# Altium footprint library 1000uF_10V_Size_F.PcbLib: 1 footprints
Each footprint in its own frame and in the unit in brackets; x right, y up, seen from the top. Pads: shape width x height; smd on the part's side, far side on the other; paste and mask are expansions set on the pad; w line width, h text height; cw(c..) or ccw(c..) is an arc to the next point about the centre after c.
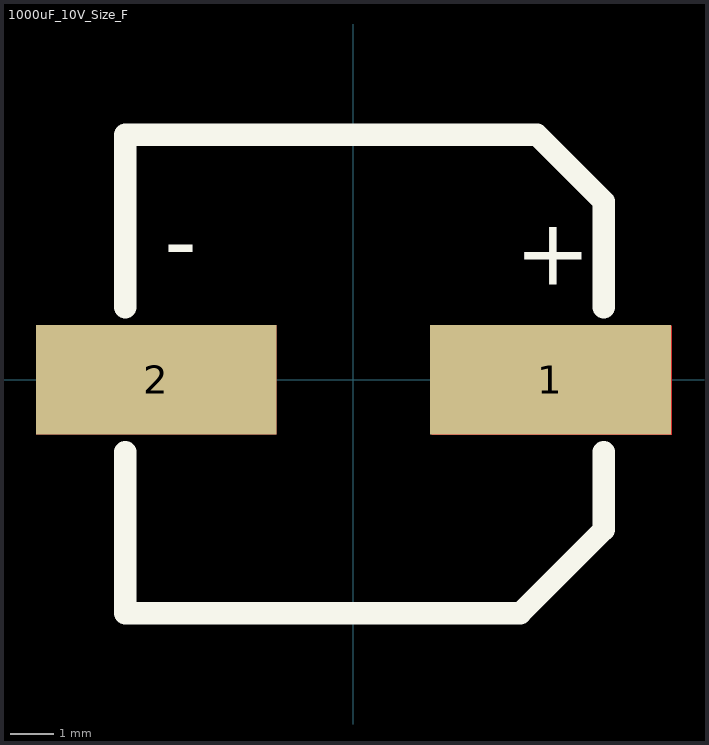
[diagram p0: the footprint, top view; thin cyan lines are the x and y axes]

## 1000uF_10V_Size_F [mm]
pads (2):
  rect 5.5x2.5 smd: 1(4.5,0) 2(-4.5,0)
Top Layer:
  rectangle: 1.778,-1.27 7.278,1.23
  rectangle: -7.25,-1.25 -1.75,1.25
Top Overlay:
  lines w0.508: -5.207,-1.651 -5.207,-5.334 3.81,-5.334 5.715,-3.429 5.715,-1.651 ; -5.207,1.651 -5.207,5.588 4.191,5.588 5.715,4.064 5.715,1.651
  text "+" at 3.683,2.159 h1.52
  text "-" at -4.318,2.413 h1.52
3D body "EEE1HA101AP.stp": height 10.32, standoff 0.12, extent -5.85,-5.15 5.85,5.15